# Altium schematic symbol library PIC.SchLib: 2 symbols
Pins are listed as number, name and electrical type; pins without a type are passive.

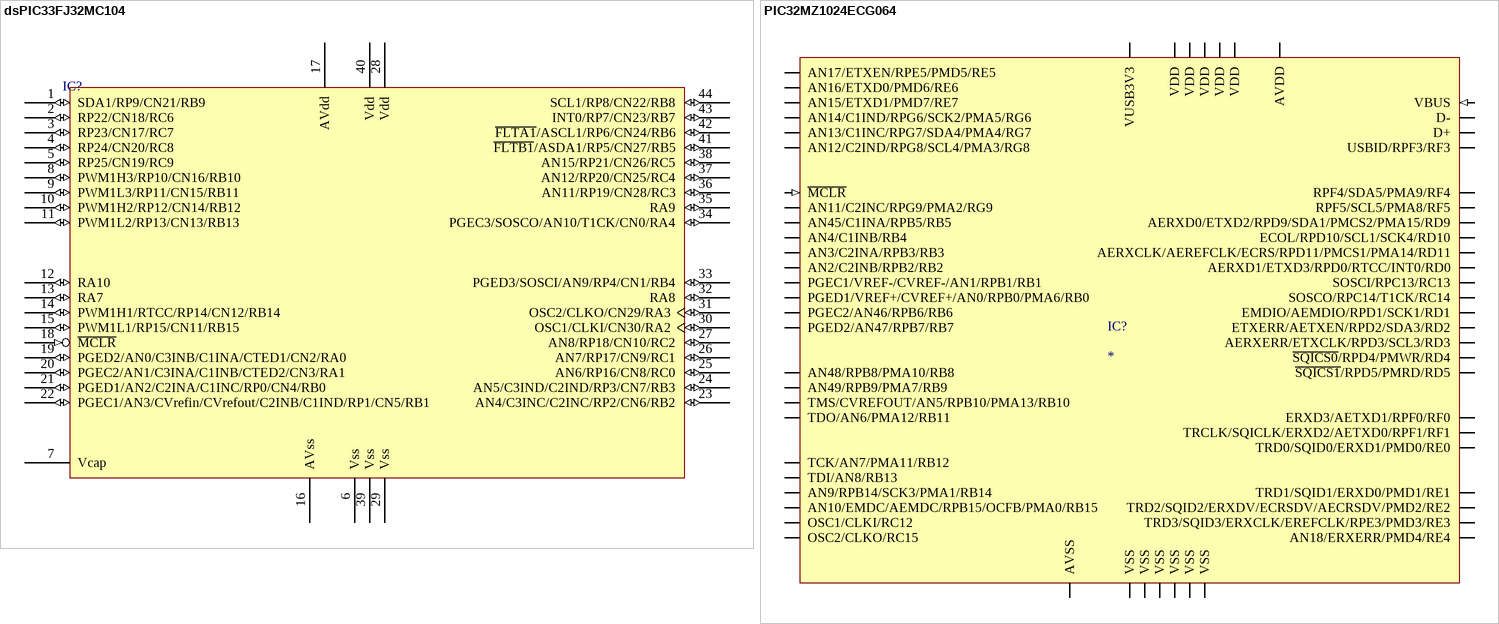
[diagram p0: symbols dsPIC33FJ32MC104 to PIC32MZ1024ECG064]

## dsPIC33FJ32MC104
designator IC?
16-bit Microcontroller
footprint TQFP-44_M (TQFP, 44-Leads, Body 10x10x1mm, Pitch 0.8mm, Lead Span 12mm, IPC Low Density)
pins: 1 SDA1/RP9/CN21/RB9 (io), 2 RP22/CN18/RC6 (io), 3 RP23/CN17/RC7 (io), 4 RP24/CN20/RC8 (io), 5 RP25/CN19/RC9 (io), 6 Vss (power), 7 Vcap (power), 8 PWM1H3/RP10/CN16/RB10 (io), 9 PWM1L3/RP11/CN15/RB11 (io), 10 PWM1H2/RP12/CN14/RB12 (io), 11 PWM1L2/RP13/CN13/RB13 (io), 12 RA10 (io), 13 RA7 (io), 14 PWM1H1/RTCC/RP14/CN12/RB14 (io), 15 PWM1L1/RP15/CN11/RB15 (io), 16 AVss (power), 17 AVdd (power), 18 ~{MCLR} (in), 19 PGED2/AN0/C3INB/C1INA/CTED1/CN2/RA0 (io), 20 PGEC2/AN1/C3INA/C1INB/CTED2/CN3/RA1 (io), 21 PGED1/AN2/C2INA/C1INC/RP0/CN4/RB0 (io), 22 PGEC1/AN3/CVrefin/CVrefout/C2INB/C1IND/RP1/CN5/RB1 (io), 23 AN4/C3INC/C2INC/RP2/CN6/RB2 (io), 24 AN5/C3IND/C2IND/RP3/CN7/RB3 (io), 25 AN6/RP16/CN8/RC0 (io), 26 AN7/RP17/CN9/RC1 (io), 27 AN8/RP18/CN10/RC2 (io), 28 Vdd (power), 29 Vss (power), 30 OSC1/CLKI/CN30/RA2 (io), 31 OSC2/CLKO/CN29/RA3 (io), 32 RA8 (io), 33 PGED3/SOSCI/AN9/RP4/CN1/RB4 (io), 34 PGEC3/SOSCO/AN10/T1CK/CN0/RA4 (io), 35 RA9 (io), 36 AN11/RP19/CN28/RC3 (io), 37 AN12/RP20/CN25/RC4 (io), 38 AN15/RP21/CN26/RC5 (io), 39 Vss (power), 40 Vdd (power), 41 ~{FLTB1}/ASDA1/RP5/CN27/RB5 (io), 42 ~{FLTA1}/ASCL1/RP6/CN24/RB6 (io), 43 INT0/RP7/CN23/RB7 (io), 44 SCL1/RP8/CN22/RB8 (io)

## PIC32MZ1024ECG064
designator IC?
32-bit Microcontroller
footprint TQFP-64_M (TQFP, 44-Leads, Body 10x10x1.2mm, Pitch 0.5mm, Lead Span 12mm, IPC Low Density)
pins: 1 AN17/ETXEN/RPE5/PMD5/RE5 (io), 2 AN16/ETXD0/PMD6/RE6 (io), 3 AN15/ETXD1/PMD7/RE7 (io), 4 AN14/C1IND/RPG6/SCK2/PMA5/RG6 (io), 5 AN13/C1INC/RPG7/SDA4/PMA4/RG7 (io), 6 AN12/C2IND/RPG8/SCL4/PMA3/RG8 (io), 7 VSS (power), 8 VDD (power), 9 ~{MCLR} (in), 10 AN11/C2INC/RPG9/PMA2/RG9 (io), 11 AN45/C1INA/RPB5/RB5 (io), 12 AN4/C1INB/RB4 (io), 13 AN3/C2INA/RPB3/RB3 (io), 14 AN2/C2INB/RPB2/RB2 (io), 15 PGEC1/VREF-/CVREF-/AN1/RPB1/RB1 (io), 16 PGED1/VREF+/CVREF+/AN0/RPB0/PMA6/RB0 (io), 17 PGEC2/AN46/RPB6/RB6 (io), 18 PGED2/AN47/RPB7/RB7 (io), 19 AVDD (power), 20 AVSS (power), 21 AN48/RPB8/PMA10/RB8 (io), 22 AN49/RPB9/PMA7/RB9 (io), 23 TMS/CVREFOUT/AN5/RPB10/PMA13/RB10 (io), 24 TDO/AN6/PMA12/RB11 (io), 25 VSS (power), 26 VDD (power), 27 TCK/AN7/PMA11/RB12 (io), 28 TDI/AN8/RB13 (io), 29 AN9/RPB14/SCK3/PMA1/RB14 (io), 30 AN10/EMDC/AEMDC/RPB15/OCFB/PMA0/RB15 (io), 31 OSC1/CLKI/RC12 (io), 32 OSC2/CLKO/RC15 (io), 33 VBUS (in), 34 VUSB3V3 (power), 35 VSS (power), 36 D- (io), 37 D+ (io), 38 USBID/RPF3/RF3 (io), 39 VDD (power), 40 VSS (power), 41 RPF4/SDA5/PMA9/RF4 (io), 42 RPF5/SCL5/PMA8/RF5 (io), 43 AERXD0/ETXD2/RPD9/SDA1/PMCS2/PMA15/RD9 (io), 44 ECOL/RPD10/SCL1/SCK4/RD10 (io), 45 AERXCLK/AEREFCLK/ECRS/RPD11/PMCS1/PMA14/RD11 (io), 46 AERXD1/ETXD3/RPD0/RTCC/INT0/RD0 (io), 47 SOSCI/RPC13/RC13 (io), 48 SOSCO/RPC14/T1CK/RC14 (io), 49 EMDIO/AEMDIO/RPD1/SCK1/RD1 (io), 50 ETXERR/AETXEN/RPD2/SDA3/RD2 (io), 51 AERXERR/ETXCLK/RPD3/SCL3/RD3 (io), 52 ~{SQICS0}/RPD4/PMWR/RD4 (io), 53 ~{SQICS1}/RPD5/PMRD/RD5 (io), 54 VDD (power), 55 VSS (power), 56 ERXD3/AETXD1/RPF0/RF0 (io), 57 TRCLK/SQICLK/ERXD2/AETXD0/RPF1/RF1 (io), 58 TRD0/SQID0/ERXD1/PMD0/RE0 (io), 59 VSS (power), 60 VDD (power), 61 TRD1/SQID1/ERXD0/PMD1/RE1 (io), 62 TRD2/SQID2/ERXDV/ECRSDV/AECRSDV/PMD2/RE2 (io), 63 TRD3/SQID3/ERXCLK/EREFCLK/RPE3/PMD3/RE3 (io), 64 AN18/ERXERR/PMD4/RE4 (io)